# Altium schematic symbol library DS18B20U+T&R.SchLib: 2 symbols
Pins are listed as number, name and electrical type; pins without a type are passive.

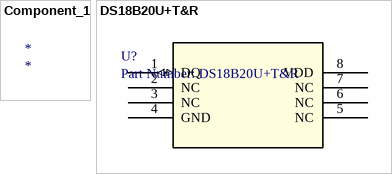
[diagram p0: symbols Component_1 to DS18B20U+T&R]

## Component_1
designator *

## DS18B20U+T&R
designator U?, comment Part Number: DS18B20U+T&R
No Description Available; Vendor: Maxim Integrated Products; Built_By: EMA_Jessica; Manufacturer_Part_Number: DS18B20U+T&R; Copyright: Copyright (C) 2018 Accelerated Designs. All rights reserved; RefDes: RefDes; Type: DEV; Value: Value
footprint 21-0036K
pins: 1 DQ (io), 2 NC, 3 NC, 4 GND (power), 5 NC, 6 NC, 7 NC, 8 VDD (power)